# EAGLE library part SPARTAN7-LX15 (library fpga)
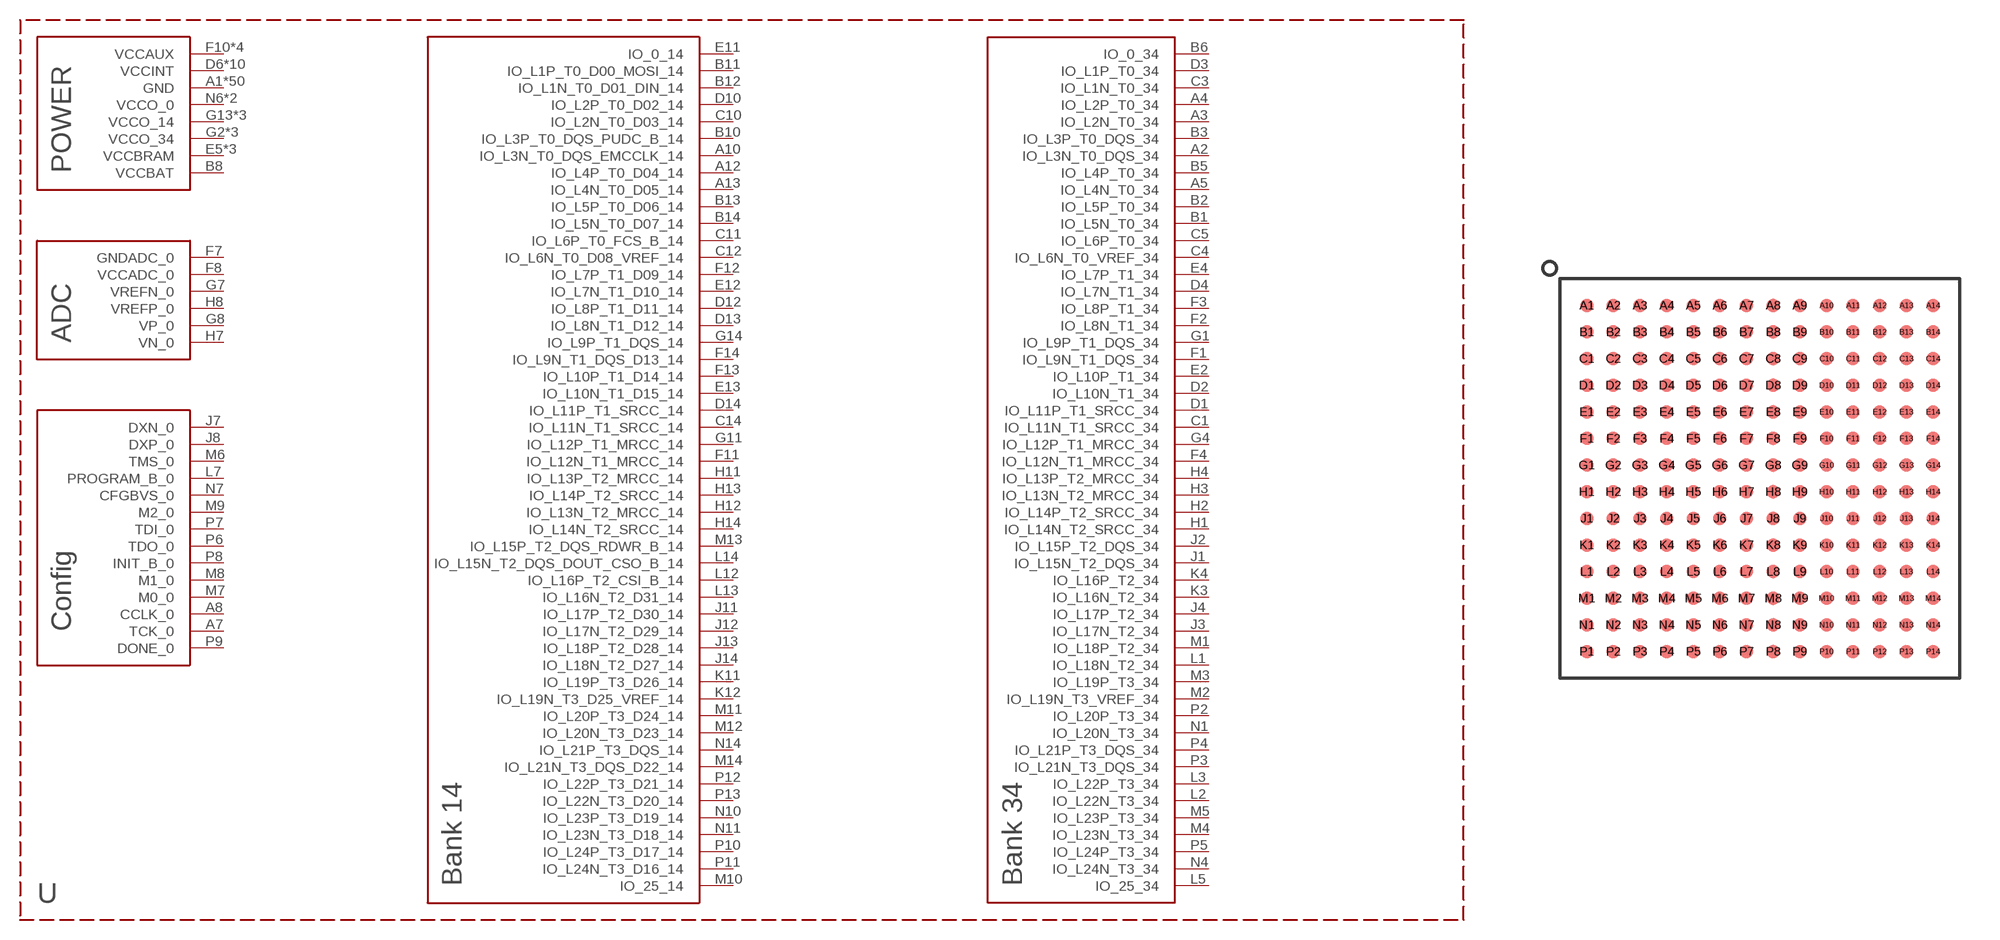
[diagram p2: symbol with the pads of FTGB196; footprint FTGB196]

Designator prefix U

## SPARTAN7-LX15  [FTGB196]
A1  GND
A2  IO_L3N_T0_DQS_34
A3  IO_L2N_T0_34
A4  IO_L2P_T0_34
A5  IO_L4N_T0_34
A6  GND
A7  TCK_0
A8  CCLK_0
A9  GND
A10  IO_L3N_T0_DQS_EMCCLK_14
A11  GND
A12  IO_L4P_T0_D04_14
A13  IO_L4N_T0_D05_14
A14  GND
B1  IO_L5N_T0_34
B2  IO_L5P_T0_34
B3  IO_L3P_T0_DQS_34
B4  GND
B5  IO_L4P_T0_34
B6  IO_0_34
B7  GND
B8  VCCBAT
B9  GND
B10  IO_L3P_T0_DQS_PUDC_B_14
B11  IO_L1P_T0_D00_MOSI_14
B12  IO_L1N_T0_D01_DIN_14
B13  IO_L5P_T0_D06_14
B14  IO_L5N_T0_D07_14
C1  IO_L11N_T1_SRCC_34
C2  GND
C3  IO_L1N_T0_34
C4  IO_L6N_T0_VREF_34
C5  IO_L6P_T0_34
C6  GND
C7  GND
C8  GND
C9  GND
C10  IO_L2N_T0_D03_14
C11  IO_L6P_T0_FCS_B_14
C12  IO_L6N_T0_D08_VREF_14
C13  GND
C14  IO_L11N_T1_SRCC_14
D1  IO_L11P_T1_SRCC_34
D2  IO_L10N_T1_34
D3  IO_L1P_T0_34
D4  IO_L7N_T1_34
D5  GND
D6  VCCINT
D7  GND
D8  VCCINT
D9  GND
D10  IO_L2P_T0_D02_14
D11  GND
D12  IO_L8P_T1_D11_14
D13  IO_L8N_T1_D12_14
D14  IO_L11P_T1_SRCC_14
E1  GND
E2  IO_L10P_T1_34
E3  GND
E4  IO_L7P_T1_34
E5  VCCBRAM
E6  GND
E7  VCCINT
E8  GND
E9  VCCINT
E10  GND
E11  IO_0_14
E12  IO_L7N_T1_D10_14
E13  IO_L10N_T1_D15_14
E14  GND
F1  IO_L9N_T1_DQS_34
F2  IO_L8N_T1_34
F3  IO_L8P_T1_34
F4  IO_L12N_T1_MRCC_34
F5  GND
F6  VCCINT
F7  GNDADC_0
F8  VCCADC_0
F9  GND
F10  VCCAUX
F11  IO_L12N_T1_MRCC_14
F12  IO_L7P_T1_D09_14
F13  IO_L10P_T1_D14_14
F14  IO_L9N_T1_DQS_D13_14
G1  IO_L9P_T1_DQS_34
G2  VCCO_34
G3  GND
G4  IO_L12P_T1_MRCC_34
G5  VCCBRAM
G6  GND
G7  VREFN_0
G8  VP_0
G9  VCCINT
G10  GND
G11  IO_L12P_T1_MRCC_14
G12  GND
G13  VCCO_14
G14  IO_L9P_T1_DQS_14
H1  IO_L14N_T2_SRCC_34
H2  IO_L14P_T2_SRCC_34
H3  IO_L13N_T2_MRCC_34
H4  IO_L13P_T2_MRCC_34
H5  GND
H6  VCCINT
H7  VN_0
H8  VREFP_0
H9  GND
H10  VCCAUX
H11  IO_L13P_T2_MRCC_14
H12  IO_L13N_T2_MRCC_14
H13  IO_L14P_T2_SRCC_14
H14  IO_L14N_T2_SRCC_14
J1  IO_L15N_T2_DQS_34
J2  IO_L15P_T2_DQS_34
J3  IO_L17N_T2_34
J4  IO_L17P_T2_34
J5  VCCBRAM
J6  GND
J7  DXN_0
J8  DXP_0
J9  VCCINT
J10  GND
J11  IO_L17P_T2_D30_14
J12  IO_L17N_T2_D29_14
J13  IO_L18P_T2_D28_14
J14  IO_L18N_T2_D27_14
K1  GND
K2  VCCO_34
K3  IO_L16N_T2_34
K4  IO_L16P_T2_34
K5  GND
K6  VCCINT
K7  GND
K8  VCCINT
K9  GND
K10  VCCAUX
K11  IO_L19P_T3_D26_14
K12  IO_L19N_T3_D25_VREF_14
K13  VCCO_14
K14  GND
L1  IO_L18N_T2_34
L2  IO_L22N_T3_34
L3  IO_L22P_T3_34
L4  GND
L5  IO_25_34
L6  GND
L7  PROGRAM_B_0
L8  GND
L9  VCCAUX
L10  GND
L11  GND
L12  IO_L16P_T2_CSI_B_14
L13  IO_L16N_T2_D31_14
L14  IO_L15N_T2_DQS_DOUT_CSO_B_14
M1  IO_L18P_T2_34
M2  IO_L19N_T3_VREF_34
M3  IO_L19P_T3_34
M4  IO_L23N_T3_34
M5  IO_L23P_T3_34
M6  TMS_0
M7  M0_0
M8  M1_0
M9  M2_0
M10  IO_25_14
M11  IO_L20P_T3_D24_14
M12  IO_L20N_T3_D23_14
M13  IO_L15P_T2_DQS_RDWR_B_14
M14  IO_L21N_T3_DQS_D22_14
N1  IO_L20N_T3_34
N2  VCCO_34
N3  GND
N4  IO_L24N_T3_34
N5  GND
N6  VCCO_0
N7  CFGBVS_0
N8  VCCO_0
N9  GND
N10  IO_L23P_T3_D19_14
N11  IO_L23N_T3_D18_14
N12  GND
N13  VCCO_14
N14  IO_L21P_T3_DQS_14
P1  GND
P2  IO_L20P_T3_34
P3  IO_L21N_T3_DQS_34
P4  IO_L21P_T3_DQS_34
P5  IO_L24P_T3_34
P6  TDO_0
P7  TDI_0
P8  INIT_B_0
P9  DONE_0
P10  IO_L24P_T3_D17_14
P11  IO_L24N_T3_D16_14
P12  IO_L22P_T3_D21_14
P13  IO_L22N_T3_D20_14
P14  GND

## Footprint FTGB196 (pad centres in mm)
smd 0.5 x 0.5: A1 -6.5,6.5; A2 -5.5,6.5; A3 -4.5,6.5; A4 -3.5,6.5; A5 -2.5,6.5; A6 -1.5,6.5; A7 -0.5,6.5; A8 0.5,6.5; A9 1.5,6.5; A10 2.5,6.5; A11 3.5,6.5; A12 4.5,6.5; A13 5.5,6.5; A14 6.5,6.5; B1 -6.5,5.5; B2 -5.5,5.5; B3 -4.5,5.5; B4 -3.5,5.5; B5 -2.5,5.5; B6 -1.5,5.5; B7 -0.5,5.5; B8 0.5,5.5; B9 1.5,5.5; B10 2.5,5.5; B11 3.5,5.5; B12 4.5,5.5; B13 5.5,5.5; B14 6.5,5.5; C1 -6.5,4.5; C2 -5.5,4.5; C3 -4.5,4.5; C4 -3.5,4.5; C5 -2.5,4.5; C6 -1.5,4.5; C7 -0.5,4.5; C8 0.5,4.5; C9 1.5,4.5; C10 2.5,4.5; C11 3.5,4.5; C12 4.5,4.5; C13 5.5,4.5; C14 6.5,4.5; D1 -6.5,3.5; D2 -5.5,3.5; D3 -4.5,3.5; D4 -3.5,3.5; D5 -2.5,3.5; D6 -1.5,3.5; D7 -0.5,3.5; D8 0.5,3.5; D9 1.5,3.5; D10 2.5,3.5; D11 3.5,3.5; D12 4.5,3.5; D13 5.5,3.5; D14 6.5,3.5; E1 -6.5,2.5; E2 -5.5,2.5; E3 -4.5,2.5; E4 -3.5,2.5; E5 -2.5,2.5; E6 -1.5,2.5; E7 -0.5,2.5; E8 0.5,2.5; E9 1.5,2.5; E10 2.5,2.5; E11 3.5,2.5; E12 4.5,2.5; E13 5.5,2.5; E14 6.5,2.5; F1 -6.5,1.5; F2 -5.5,1.5; F3 -4.5,1.5; F4 -3.5,1.5; F5 -2.5,1.5; F6 -1.5,1.5; F7 -0.5,1.5; F8 0.5,1.5; F9 1.5,1.5; F10 2.5,1.5; F11 3.5,1.5; F12 4.5,1.5; F13 5.5,1.5; F14 6.5,1.5; G1 -6.5,0.5; G2 -5.5,0.5; G3 -4.5,0.5; G4 -3.5,0.5; G5 -2.5,0.5; G6 -1.5,0.5; G7 -0.5,0.5; G8 0.5,0.5; G9 1.5,0.5; G10 2.5,0.5; G11 3.5,0.5; G12 4.5,0.5; G13 5.5,0.5; G14 6.5,0.5; H1 -6.5,-0.5; H2 -5.5,-0.5; H3 -4.5,-0.5; H4 -3.5,-0.5; H5 -2.5,-0.5; H6 -1.5,-0.5; H7 -0.5,-0.5; H8 0.5,-0.5; H9 1.5,-0.5; H10 2.5,-0.5; H11 3.5,-0.5; H12 4.5,-0.5; H13 5.5,-0.5; H14 6.5,-0.5; J1 -6.5,-1.5; J2 -5.5,-1.5; J3 -4.5,-1.5; J4 -3.5,-1.5; J5 -2.5,-1.5; J6 -1.5,-1.5; J7 -0.5,-1.5; J8 0.5,-1.5; J9 1.5,-1.5; J10 2.5,-1.5; J11 3.5,-1.5; J12 4.5,-1.5; J13 5.5,-1.5; J14 6.5,-1.5; K1 -6.5,-2.5; K2 -5.5,-2.5; K3 -4.5,-2.5; K4 -3.5,-2.5; K5 -2.5,-2.5; K6 -1.5,-2.5; K7 -0.5,-2.5; K8 0.5,-2.5; K9 1.5,-2.5; K10 2.5,-2.5; K11 3.5,-2.5; K12 4.5,-2.5; K13 5.5,-2.5; K14 6.5,-2.5; L1 -6.5,-3.5; L2 -5.5,-3.5; L3 -4.5,-3.5; L4 -3.5,-3.5; L5 -2.5,-3.5; L6 -1.5,-3.5; L7 -0.5,-3.5; L8 0.5,-3.5; L9 1.5,-3.5; L10 2.5,-3.5; L11 3.5,-3.5; L12 4.5,-3.5; L13 5.5,-3.5; L14 6.5,-3.5; M1 -6.5,-4.5; M2 -5.5,-4.5; M3 -4.5,-4.5; M4 -3.5,-4.5; M5 -2.5,-4.5; M6 -1.5,-4.5; M7 -0.5,-4.5; M8 0.5,-4.5; M9 1.5,-4.5; M10 2.5,-4.5; M11 3.5,-4.5; M12 4.5,-4.5; M13 5.5,-4.5; M14 6.5,-4.5; N1 -6.5,-5.5; N2 -5.5,-5.5; N3 -4.5,-5.5; N4 -3.5,-5.5; N5 -2.5,-5.5; N6 -1.5,-5.5; N7 -0.5,-5.5; N8 0.5,-5.5; N9 1.5,-5.5; N10 2.5,-5.5; N11 3.5,-5.5; N12 4.5,-5.5; N13 5.5,-5.5; N14 6.5,-5.5; P1 -6.5,-6.5; P2 -5.5,-6.5; P3 -4.5,-6.5; P4 -3.5,-6.5; P5 -2.5,-6.5; P6 -1.5,-6.5; P7 -0.5,-6.5; P8 0.5,-6.5; P9 1.5,-6.5; P10 2.5,-6.5; P11 3.5,-6.5; P12 4.5,-6.5; P13 5.5,-6.5; P14 6.5,-6.5